# Altium integrated library Microchip PIC16 Part 1.IntLib: 1800 symbols (part 65 of 93)
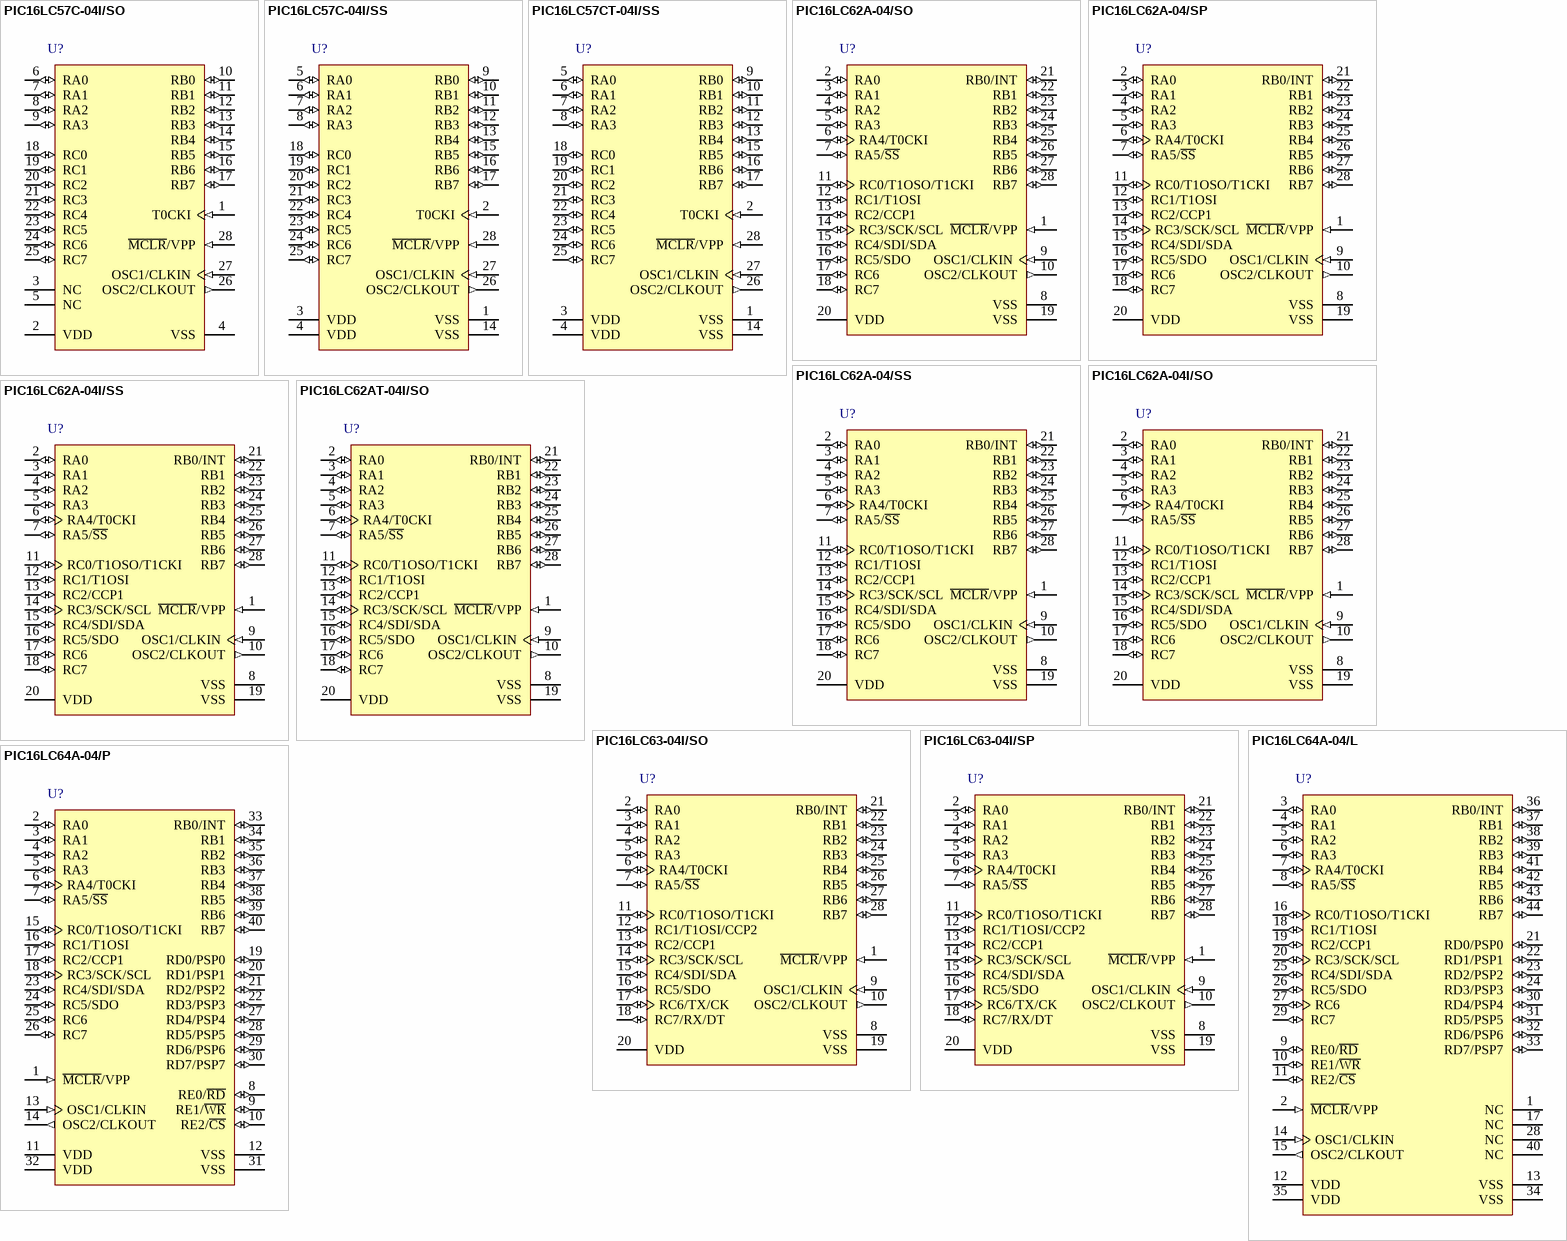
[diagram p163: symbols PIC16LC57C-04I/SO to PIC16LC64A-04/P]

## PIC16LC62A-04/SO
designator U?
8-Bit CMOS Microcontroller, 4 MHz, 22 I/O, 0 to 70 degC, 28-pin SOIC (SO28), Tube; Manufacturer: Microchip; PartNumber: PIC16LC62A-04/SO; I/O Pins: 22; Max. CPU Speed MHz: 4; Memory Type: OTP; Operation Voltage Range: 2.5V - 6V; Program Memory KBytes: 3.5; Program Memory KWords: 2; RAM: 128; Timers: 2 - 8-bit, 1 - 16-bit; DatasheetVersion: Rev. E; PackageVersion: C04-052C, 12/2012; PackageReference: SOIC-SO28; PackageDescription: 28-Lead Plastic Small Outline, 17.9 x 7.5 mm Body, 1.27 mm Pitch; Supplier 1: Digi-Key; Supplier Part Number 1: PIC16LC62A-04/SO-ND; Supplier 2: Mouser; Supplier Part Number 2: 579-PIC16LC62A-04/SO; Packing: TUBE; Mounting Technology: Surface Mount; ComponentLink1Description: Datasheet; ComponentLink1URL: http://ww1.microchip.com/downloads/en/DeviceDoc/30234E.pdf; ComponentLink2Description: Package Specification; ComponentLink2URL: http://www.microchip.com/stellent/groups/techpub_sg/documents/packagingspec/en012702.pdf; ComponentLink3Description: URL Link1; ComponentLink3URL: Product URL:http://www.microchip.com/datasheet/PIC16C62A
footprint MCHP-SOIC-SO28_N (SOIC, 28-Leads, Body 17.9x7.5mm, Pitch 1.27mm, IPC Medium Density)
footprint MCHP-SOIC-SO28_L (SOIC, 28-Leads, Body 17.9x7.5mm, Pitch 1.27mm, IPC High Density)
footprint MCHP-SOIC-SO28_M (SOIC, 28-Leads, Body 17.9x7.5mm, Pitch 1.27mm, IPC Low Density)
pins: 1 ~{MCLR}/VPP (in), 2 RA0 (io), 3 RA1 (io), 4 RA2 (io), 5 RA3 (io), 6 RA4/T0CKI (io), 7 RA5/~{SS} (io), 8 VSS (power) "Ground reference for logic and I/O pins.", 9 OSC1/CLKIN (in), 10 OSC2/CLKOUT (out), 11 RC0/T1OSO/T1CKI (io), 12 RC1/T1OSI (io), 13 RC2/CCP1 (io), 14 RC3/SCK/SCL (io), 15 RC4/SDI/SDA (io), 16 RC5/SDO (io), 17 RC6 (io) "PORTC is a bi-directional I/O port.", 18 RC7 (io) "PORTC is a bi-directional I/O port.", 19 VSS (power) "Ground reference for logic and I/O pins.", 20 VDD (power) "Positive supply for logic and I/O pins.", 21 RB0/INT (io), 22 RB1 (io) "PORTB is a bi-directional I/O port. PORTB can be software programmed for internal weak pull-up on all inputs.", 23 RB2 (io) "PORTB is a bi-directional I/O port. PORTB can be software programmed for internal weak pull-up on all inputs.", 24 RB3 (io) "PORTB is a bi-directional I/O port. PORTB can be software programmed for internal weak pull-up on all inputs.", 25 RB4 (io) "PORTB is a bi-directional I/O port. PORTB can be software programmed for internal weak pull-up on all inputs.Interrupt on change pin.", 26 RB5 (io) "PORTB is a bi-directional I/O port. PORTB can be software programmed for internal weak pull-up on all inputs.Interrupt on change pin.", 27 RB6 (io) "PORTB is a bi-directional I/O port. PORTB can be software programmed for internal weak pull-up on all inputs.Interrupt on change pin. Serial programming clock.", 28 RB7 (io) "PORTB is a bi-directional I/O port. PORTB can be software programmed for internal weak pull-up on all inputs.Interrupt on change pin. Serial programming data."

## PIC16LC62A-04/SP
designator U?
8-Bit CMOS Microcontroller, 4 MHz, 22 I/O, 0 to 70 degC, 28-pin SPDIP (SP28), Tube; Manufacturer: Microchip; PartNumber: PIC16LC62A-04/SP; I/O Pins: 22; Max. CPU Speed MHz: 4; Memory Type: OTP; Operation Voltage Range: 2.5V - 6V; Program Memory KBytes: 3.5; Program Memory KWords: 2; RAM: 128; Timers: 2 - 8-bit, 1 - 16-bit; DatasheetVersion: Rev. E; PackageVersion: C04-070B, 12/2012; PackageReference: SPDIP-SP28; PackageDescription: 28-Lead Plastic Dual In-Line, 34.86 x 6.79 mm Body, 2.54 mm Pitch; Supplier 1: Digi-Key; Supplier Part Number 1: PIC16LC62A-04/SP-ND; Supplier 2: Mouser; Supplier Part Number 2: 579-PIC16LC62A-04/SP; Packing: TUBE; Mounting Technology: Through Hole; ComponentLink1Description: Datasheet; ComponentLink1URL: http://ww1.microchip.com/downloads/en/DeviceDoc/30234E.pdf; ComponentLink2Description: Package Specification; ComponentLink2URL: http://www.microchip.com/stellent/groups/techpub_sg/documents/packagingspec/en012702.pdf; ComponentLink3Description: URL Link1; ComponentLink3URL: Product URL:http://www.microchip.com/datasheet/PIC16C62A
footprint MCHP-SPDIP-SP28 (DIP, 28-Leads, Body 34.86x6.79mm, Pitch 2.54mm)
pins: 1 ~{MCLR}/VPP (in), 2 RA0 (io), 3 RA1 (io), 4 RA2 (io), 5 RA3 (io), 6 RA4/T0CKI (io), 7 RA5/~{SS} (io), 8 VSS (power) "Ground reference for logic and I/O pins.", 9 OSC1/CLKIN (in), 10 OSC2/CLKOUT (out), 11 RC0/T1OSO/T1CKI (io), 12 RC1/T1OSI (io), 13 RC2/CCP1 (io), 14 RC3/SCK/SCL (io), 15 RC4/SDI/SDA (io), 16 RC5/SDO (io), 17 RC6 (io) "PORTC is a bi-directional I/O port.", 18 RC7 (io) "PORTC is a bi-directional I/O port.", 19 VSS (power) "Ground reference for logic and I/O pins.", 20 VDD (power) "Positive supply for logic and I/O pins.", 21 RB0/INT (io), 22 RB1 (io) "PORTB is a bi-directional I/O port. PORTB can be software programmed for internal weak pull-up on all inputs.", 23 RB2 (io) "PORTB is a bi-directional I/O port. PORTB can be software programmed for internal weak pull-up on all inputs.", 24 RB3 (io) "PORTB is a bi-directional I/O port. PORTB can be software programmed for internal weak pull-up on all inputs.", 25 RB4 (io) "PORTB is a bi-directional I/O port. PORTB can be software programmed for internal weak pull-up on all inputs.Interrupt on change pin.", 26 RB5 (io) "PORTB is a bi-directional I/O port. PORTB can be software programmed for internal weak pull-up on all inputs.Interrupt on change pin.", 27 RB6 (io) "PORTB is a bi-directional I/O port. PORTB can be software programmed for internal weak pull-up on all inputs.Interrupt on change pin. Serial programming clock.", 28 RB7 (io) "PORTB is a bi-directional I/O port. PORTB can be software programmed for internal weak pull-up on all inputs.Interrupt on change pin. Serial programming data."

## PIC16LC62A-04/SS
designator U?
8-Bit CMOS Microcontroller, 4 MHz, 22 I/O, 0 to 70 degC, 28-pin SSOP (SS28), Tube; Manufacturer: Microchip; PartNumber: PIC16LC62A-04/SS; I/O Pins: 22; Max. CPU Speed MHz: 4; Memory Type: OTP; Operation Voltage Range: 2.5V - 6V; Program Memory KBytes: 3.5; Program Memory KWords: 2; RAM: 128; Timers: 2 - 8-bit, 1 - 16-bit; DatasheetVersion: Rev. E; PackageVersion: C04-073B, 12/2012; PackageReference: SSOP-SS28; PackageDescription: 28-Lead Plastic Shrink Small Outline, 10.2 x 5.3 mm Body, 0.65 mm Pitch; Supplier 1: Digi-Key; Supplier Part Number 1: PIC16LC62A-04/SS-ND; Supplier 2: Mouser; Supplier Part Number 2: 579-PIC16LC62A-04/SS; Packing: TUBE; Mounting Technology: Surface Mount; ComponentLink1Description: Datasheet; ComponentLink1URL: http://ww1.microchip.com/downloads/en/DeviceDoc/30234E.pdf; ComponentLink2Description: Package Specification; ComponentLink2URL: http://www.microchip.com/stellent/groups/techpub_sg/documents/packagingspec/en012702.pdf; ComponentLink3Description: URL Link1; ComponentLink3URL: Product URL:http://www.microchip.com/datasheet/PIC16C62A
footprint MCHP-SSOP-SS28_N (SOP, 28-Leads, Body 10.2x5.3mm, Pitch 0.65mm, IPC Medium Density)
footprint MCHP-SSOP-SS28_L (SOP, 28-Leads, Body 10.2x5.3mm, Pitch 0.65mm, IPC High Density)
footprint MCHP-SSOP-SS28_M (SOP, 28-Leads, Body 10.2x5.3mm, Pitch 0.65mm, IPC Low Density)
pins: 1 ~{MCLR}/VPP (in), 2 RA0 (io), 3 RA1 (io), 4 RA2 (io), 5 RA3 (io), 6 RA4/T0CKI (io), 7 RA5/~{SS} (io), 8 VSS (power) "Ground reference for logic and I/O pins.", 9 OSC1/CLKIN (in), 10 OSC2/CLKOUT (out), 11 RC0/T1OSO/T1CKI (io), 12 RC1/T1OSI (io), 13 RC2/CCP1 (io), 14 RC3/SCK/SCL (io), 15 RC4/SDI/SDA (io), 16 RC5/SDO (io), 17 RC6 (io) "PORTC is a bi-directional I/O port.", 18 RC7 (io) "PORTC is a bi-directional I/O port.", 19 VSS (power) "Ground reference for logic and I/O pins.", 20 VDD (power) "Positive supply for logic and I/O pins.", 21 RB0/INT (io), 22 RB1 (io) "PORTB is a bi-directional I/O port. PORTB can be software programmed for internal weak pull-up on all inputs.", 23 RB2 (io) "PORTB is a bi-directional I/O port. PORTB can be software programmed for internal weak pull-up on all inputs.", 24 RB3 (io) "PORTB is a bi-directional I/O port. PORTB can be software programmed for internal weak pull-up on all inputs.", 25 RB4 (io) "PORTB is a bi-directional I/O port. PORTB can be software programmed for internal weak pull-up on all inputs.Interrupt on change pin.", 26 RB5 (io) "PORTB is a bi-directional I/O port. PORTB can be software programmed for internal weak pull-up on all inputs.Interrupt on change pin.", 27 RB6 (io) "PORTB is a bi-directional I/O port. PORTB can be software programmed for internal weak pull-up on all inputs.Interrupt on change pin. Serial programming clock.", 28 RB7 (io) "PORTB is a bi-directional I/O port. PORTB can be software programmed for internal weak pull-up on all inputs.Interrupt on change pin. Serial programming data."

## PIC16LC62A-04I/SO
designator U?
8-Bit CMOS Microcontroller, 4 MHz, 22 I/O, -40 to 85 degC, 28-pin SOIC (SO28), Tube; Manufacturer: Microchip; PartNumber: PIC16LC62A-04I/SO; I/O Pins: 22; Max. CPU Speed MHz: 4; Memory Type: OTP; Operation Voltage Range: 2.5V - 6V; Program Memory KBytes: 3.5; Program Memory KWords: 2; RAM: 128; Timers: 2 - 8-bit, 1 - 16-bit; DatasheetVersion: Rev. E; PackageVersion: C04-052C, 12/2012; PackageReference: SOIC-SO28; PackageDescription: 28-Lead Plastic Small Outline, 17.9 x 7.5 mm Body, 1.27 mm Pitch; Supplier 1: Digi-Key; Supplier Part Number 1: PIC16LC62A-04I/SO-ND; Supplier 2: Mouser; Supplier Part Number 2: 579-16LC62A-04I/SO; Packing: TUBE; Mounting Technology: Surface Mount; ComponentLink1Description: Datasheet; ComponentLink1URL: http://ww1.microchip.com/downloads/en/DeviceDoc/30234E.pdf; ComponentLink2Description: Package Specification; ComponentLink2URL: http://www.microchip.com/stellent/groups/techpub_sg/documents/packagingspec/en012702.pdf; ComponentLink3Description: URL Link1; ComponentLink3URL: Product URL:http://www.microchip.com/datasheet/PIC16C62A
footprint MCHP-SOIC-SO28_N (SOIC, 28-Leads, Body 17.9x7.5mm, Pitch 1.27mm, IPC Medium Density)
footprint MCHP-SOIC-SO28_L (SOIC, 28-Leads, Body 17.9x7.5mm, Pitch 1.27mm, IPC High Density)
footprint MCHP-SOIC-SO28_M (SOIC, 28-Leads, Body 17.9x7.5mm, Pitch 1.27mm, IPC Low Density)
pins: 1 ~{MCLR}/VPP (in), 2 RA0 (io), 3 RA1 (io), 4 RA2 (io), 5 RA3 (io), 6 RA4/T0CKI (io), 7 RA5/~{SS} (io), 8 VSS (power) "Ground reference for logic and I/O pins.", 9 OSC1/CLKIN (in), 10 OSC2/CLKOUT (out), 11 RC0/T1OSO/T1CKI (io), 12 RC1/T1OSI (io), 13 RC2/CCP1 (io), 14 RC3/SCK/SCL (io), 15 RC4/SDI/SDA (io), 16 RC5/SDO (io), 17 RC6 (io) "PORTC is a bi-directional I/O port.", 18 RC7 (io) "PORTC is a bi-directional I/O port.", 19 VSS (power) "Ground reference for logic and I/O pins.", 20 VDD (power) "Positive supply for logic and I/O pins.", 21 RB0/INT (io), 22 RB1 (io) "PORTB is a bi-directional I/O port. PORTB can be software programmed for internal weak pull-up on all inputs.", 23 RB2 (io) "PORTB is a bi-directional I/O port. PORTB can be software programmed for internal weak pull-up on all inputs.", 24 RB3 (io) "PORTB is a bi-directional I/O port. PORTB can be software programmed for internal weak pull-up on all inputs.", 25 RB4 (io) "PORTB is a bi-directional I/O port. PORTB can be software programmed for internal weak pull-up on all inputs.Interrupt on change pin.", 26 RB5 (io) "PORTB is a bi-directional I/O port. PORTB can be software programmed for internal weak pull-up on all inputs.Interrupt on change pin.", 27 RB6 (io) "PORTB is a bi-directional I/O port. PORTB can be software programmed for internal weak pull-up on all inputs.Interrupt on change pin. Serial programming clock.", 28 RB7 (io) "PORTB is a bi-directional I/O port. PORTB can be software programmed for internal weak pull-up on all inputs.Interrupt on change pin. Serial programming data."

## PIC16LC62A-04I/SS
designator U?
8-Bit CMOS Microcontroller, 4 MHz, 22 I/O, -40 to 85 degC, 28-pin SSOP (SS28), Tube; Manufacturer: Microchip; PartNumber: PIC16LC62A-04I/SS; I/O Pins: 22; Max. CPU Speed MHz: 4; Memory Type: OTP; Operation Voltage Range: 2.5V - 6V; Program Memory KBytes: 3.5; Program Memory KWords: 2; RAM: 128; Timers: 2 - 8-bit, 1 - 16-bit; DatasheetVersion: Rev. E; PackageVersion: C04-073B, 12/2012; PackageReference: SSOP-SS28; PackageDescription: 28-Lead Plastic Shrink Small Outline, 10.2 x 5.3 mm Body, 0.65 mm Pitch; Supplier 1: Digi-Key; Supplier Part Number 1: PIC16LC62A-04I/SS-ND; Supplier 2: Mouser; Supplier Part Number 2: 579-16LC62A-04I/SS; Packing: TUBE; Mounting Technology: Surface Mount; ComponentLink1Description: Datasheet; ComponentLink1URL: http://ww1.microchip.com/downloads/en/DeviceDoc/30234E.pdf; ComponentLink2Description: Package Specification; ComponentLink2URL: http://www.microchip.com/stellent/groups/techpub_sg/documents/packagingspec/en012702.pdf; ComponentLink3Description: URL Link1; ComponentLink3URL: Product URL:http://www.microchip.com/datasheet/PIC16C62A
footprint MCHP-SSOP-SS28_N (SOP, 28-Leads, Body 10.2x5.3mm, Pitch 0.65mm, IPC Medium Density)
footprint MCHP-SSOP-SS28_L (SOP, 28-Leads, Body 10.2x5.3mm, Pitch 0.65mm, IPC High Density)
footprint MCHP-SSOP-SS28_M (SOP, 28-Leads, Body 10.2x5.3mm, Pitch 0.65mm, IPC Low Density)
pins: 1 ~{MCLR}/VPP (in), 2 RA0 (io), 3 RA1 (io), 4 RA2 (io), 5 RA3 (io), 6 RA4/T0CKI (io), 7 RA5/~{SS} (io), 8 VSS (power) "Ground reference for logic and I/O pins.", 9 OSC1/CLKIN (in), 10 OSC2/CLKOUT (out), 11 RC0/T1OSO/T1CKI (io), 12 RC1/T1OSI (io), 13 RC2/CCP1 (io), 14 RC3/SCK/SCL (io), 15 RC4/SDI/SDA (io), 16 RC5/SDO (io), 17 RC6 (io) "PORTC is a bi-directional I/O port.", 18 RC7 (io) "PORTC is a bi-directional I/O port.", 19 VSS (power) "Ground reference for logic and I/O pins.", 20 VDD (power) "Positive supply for logic and I/O pins.", 21 RB0/INT (io), 22 RB1 (io) "PORTB is a bi-directional I/O port. PORTB can be software programmed for internal weak pull-up on all inputs.", 23 RB2 (io) "PORTB is a bi-directional I/O port. PORTB can be software programmed for internal weak pull-up on all inputs.", 24 RB3 (io) "PORTB is a bi-directional I/O port. PORTB can be software programmed for internal weak pull-up on all inputs.", 25 RB4 (io) "PORTB is a bi-directional I/O port. PORTB can be software programmed for internal weak pull-up on all inputs.Interrupt on change pin.", 26 RB5 (io) "PORTB is a bi-directional I/O port. PORTB can be software programmed for internal weak pull-up on all inputs.Interrupt on change pin.", 27 RB6 (io) "PORTB is a bi-directional I/O port. PORTB can be software programmed for internal weak pull-up on all inputs.Interrupt on change pin. Serial programming clock.", 28 RB7 (io) "PORTB is a bi-directional I/O port. PORTB can be software programmed for internal weak pull-up on all inputs.Interrupt on change pin. Serial programming data."

## PIC16LC62AT-04I/SO
designator U?
8-Bit CMOS Microcontroller, 4 MHz, 22 I/O, -40 to 85 degC, 28-pin SOIC (SO28), Tape and Reel; Manufacturer: Microchip; PartNumber: PIC16LC62AT-04I/SO; I/O Pins: 22; Max. CPU Speed MHz: 4; Memory Type: OTP; Operation Voltage Range: 2.5V - 6V; Packing: T/R; Program Memory KBytes: 3.5; Program Memory KWords: 2; RAM: 128; Timers: 2 - 8-bit, 1 - 16-bit; DatasheetVersion: Rev. E; PackageVersion: C04-052C, 12/2012; PackageReference: SOIC-SO28; PackageDescription: 28-Lead Plastic Small Outline, 17.9 x 7.5 mm Body, 1.27 mm Pitch; Supplier 1: Digi-Key; Supplier Part Number 1: PIC16LC62AT-04ISO-ND; Supplier 2: Mouser; Supplier Part Number 2: 579-16LC62AT-04I/SO; Mounting Technology: Surface Mount; ComponentLink1Description: Datasheet; ComponentLink1URL: http://ww1.microchip.com/downloads/en/DeviceDoc/30234E.pdf; ComponentLink2Description: Package Specification; ComponentLink2URL: http://www.microchip.com/stellent/groups/techpub_sg/documents/packagingspec/en012702.pdf; ComponentLink3Description: URL Link1; ComponentLink3URL: Product URL:http://www.microchip.com/datasheet/PIC16C62A
footprint MCHP-SOIC-SO28_N (SOIC, 28-Leads, Body 17.9x7.5mm, Pitch 1.27mm, IPC Medium Density)
footprint MCHP-SOIC-SO28_L (SOIC, 28-Leads, Body 17.9x7.5mm, Pitch 1.27mm, IPC High Density)
footprint MCHP-SOIC-SO28_M (SOIC, 28-Leads, Body 17.9x7.5mm, Pitch 1.27mm, IPC Low Density)
pins: 1 ~{MCLR}/VPP (in), 2 RA0 (io), 3 RA1 (io), 4 RA2 (io), 5 RA3 (io), 6 RA4/T0CKI (io), 7 RA5/~{SS} (io), 8 VSS (power) "Ground reference for logic and I/O pins.", 9 OSC1/CLKIN (in), 10 OSC2/CLKOUT (out), 11 RC0/T1OSO/T1CKI (io), 12 RC1/T1OSI (io), 13 RC2/CCP1 (io), 14 RC3/SCK/SCL (io), 15 RC4/SDI/SDA (io), 16 RC5/SDO (io), 17 RC6 (io) "PORTC is a bi-directional I/O port.", 18 RC7 (io) "PORTC is a bi-directional I/O port.", 19 VSS (power) "Ground reference for logic and I/O pins.", 20 VDD (power) "Positive supply for logic and I/O pins.", 21 RB0/INT (io), 22 RB1 (io) "PORTB is a bi-directional I/O port. PORTB can be software programmed for internal weak pull-up on all inputs.", 23 RB2 (io) "PORTB is a bi-directional I/O port. PORTB can be software programmed for internal weak pull-up on all inputs.", 24 RB3 (io) "PORTB is a bi-directional I/O port. PORTB can be software programmed for internal weak pull-up on all inputs.", 25 RB4 (io) "PORTB is a bi-directional I/O port. PORTB can be software programmed for internal weak pull-up on all inputs.Interrupt on change pin.", 26 RB5 (io) "PORTB is a bi-directional I/O port. PORTB can be software programmed for internal weak pull-up on all inputs.Interrupt on change pin.", 27 RB6 (io) "PORTB is a bi-directional I/O port. PORTB can be software programmed for internal weak pull-up on all inputs.Interrupt on change pin. Serial programming clock.", 28 RB7 (io) "PORTB is a bi-directional I/O port. PORTB can be software programmed for internal weak pull-up on all inputs.Interrupt on change pin. Serial programming data."

## PIC16LC63-04I/SO
designator U?
8-Bit CMOS Microcontroller, 4 MHz, 22 I/O, -40 to 85 degC, 28-pin SOIC (SO28), Tube; Manufacturer: Microchip; PartNumber: PIC16LC63-04I/SO; Digital Communication: 0 -UART, 1 -A/E/USART, 0 -SPI, 0 -I2C, 0 -MSSP(SPI/I2C), 1 -SSP(SPI/I2C); I/O Pins: 22; Max. CPU Speed MHz: 4; Memory Type: OTP; Operation Voltage Range: 2.5V - 6V; Program Memory KBytes: 7; RAM: 192; Timers: 2 - 8-bit, 1 - 16-bit; DatasheetVersion: Rev. E; PackageVersion: C04-052C, 12/2012; PackageReference: SOIC-SO28; PackageDescription: 28-Lead Plastic Small Outline, 17.9 x 7.5 mm Body, 1.27 mm Pitch; Supplier 1: Digi-Key; Supplier Part Number 1: PIC16LC63-04I/SO-ND; Supplier 2: Newark; Supplier Part Number 2: 23C5371; Supplier 3: Mouser; Supplier Part Number 3: 579-PIC16LC63-04I/SO; Packing: TUBE; Program Memory KWords: 4; Mounting Technology: Surface Mount; ComponentLink1Description: Datasheet; ComponentLink1URL: http://ww1.microchip.com/downloads/en/DeviceDoc/30234E.pdf; ComponentLink2Description: Package Specification; ComponentLink2URL: http://www.microchip.com/stellent/groups/techpub_sg/documents/packagingspec/en012702.pdf; ComponentLink3Description: URL Link1; ComponentLink3URL: Product URL:http://www.microchip.com/datasheet/PIC16C63
footprint MCHP-SOIC-SO28_N (SOIC, 28-Leads, Body 17.9x7.5mm, Pitch 1.27mm, IPC Medium Density)
footprint MCHP-SOIC-SO28_L (SOIC, 28-Leads, Body 17.9x7.5mm, Pitch 1.27mm, IPC High Density)
footprint MCHP-SOIC-SO28_M (SOIC, 28-Leads, Body 17.9x7.5mm, Pitch 1.27mm, IPC Low Density)
pins: 1 ~{MCLR}/VPP (in), 2 RA0 (io) "PORTA is a bi-directional I/O port.", 3 RA1 (io) "PORTA is a bi-directional I/O port.", 4 RA2 (io) "PORTA is a bi-directional I/O port.", 5 RA3 (io) "PORTA is a bi-directional I/O port.", 6 RA4/T0CKI (io), 7 RA5/~{SS} (io), 8 VSS (power) "Ground reference for logic and I/O pins.", 9 OSC1/CLKIN (in), 10 OSC2/CLKOUT (out), 11 RC0/T1OSO/T1CKI (io), 12 RC1/T1OSI/CCP2 (io), 13 RC2/CCP1 (io), 14 RC3/SCK/SCL (io), 15 RC4/SDI/SDA (io), 16 RC5/SDO (io), 17 RC6/TX/CK (io), 18 RC7/RX/DT (io), 19 VSS (power) "Ground reference for logic and I/O pins.", 20 VDD (power) "Positive supply for logic and I/O pins.", 21 RB0/INT (io), 22 RB1 (io) "PORTB is a bi-directional I/O port. PORTB can be software programmed for internal weak pull-up on all inputs.", 23 RB2 (io) "PORTB is a bi-directional I/O port. PORTB can be software programmed for internal weak pull-up on all inputs.", 24 RB3 (io) "PORTB is a bi-directional I/O port. PORTB can be software programmed for internal weak pull-up on all inputs.", 25 RB4 (io) "PORTB is a bi-directional I/O port. PORTB can be software programmed for internal weak pull-up on all inputs. Interrupt on change pin.", 26 RB5 (io) "PORTB is a bi-directional I/O port. PORTB can be software programmed for internal weak pull-up on all inputs. Interrupt on change pin.", 27 RB6 (io) "PORTB is a bi-directional I/O port. PORTB can be software programmed for internal weak pull-up on all inputs. Interrupt on change pin. Serial programming clock.", 28 RB7 (io) "PORTB is a bi-directional I/O port. PORTB can be software programmed for internal weak pull-up on all inputs. Interrupt on change pin. Serial programming data."

## PIC16LC63-04I/SP
designator U?
8-Bit CMOS Microcontroller, 4 MHz, 22 I/O, -40 to 85 degC, 28-pin SPDIP (SP28), Tube; Manufacturer: Microchip; PartNumber: PIC16LC63-04I/SP; Digital Communication: 0 -UART, 1 -A/E/USART, 0 -SPI, 0 -I2C, 0 -MSSP(SPI/I2C), 1 -SSP(SPI/I2C); I/O Pins: 22; Max. CPU Speed MHz: 4; Memory Type: OTP; Operation Voltage Range: 2.5V - 6V; Program Memory KBytes: 7; RAM: 192; Timers: 2 - 8-bit, 1 - 16-bit; DatasheetVersion: Rev. E; PackageVersion: C04-070B, 12/2012; PackageReference: SPDIP-SP28; PackageDescription: 28-Lead Plastic Dual In-Line, 34.86 x 6.79 mm Body, 2.54 mm Pitch; Supplier 1: Digi-Key; Supplier Part Number 1: PIC16LC63-04I/SP-ND; Supplier 2: Mouser; Supplier Part Number 2: 579-PIC16LC63-04I/SP; Packing: TUBE; Program Memory KWords: 4; Mounting Technology: Through Hole; ComponentLink1Description: Datasheet; ComponentLink1URL: http://ww1.microchip.com/downloads/en/DeviceDoc/30234E.pdf; ComponentLink2Description: Package Specification; ComponentLink2URL: http://www.microchip.com/stellent/groups/techpub_sg/documents/packagingspec/en012702.pdf; ComponentLink3Description: URL Link1; ComponentLink3URL: Product URL:http://www.microchip.com/datasheet/PIC16C63
footprint MCHP-SPDIP-SP28 (DIP, 28-Leads, Body 34.86x6.79mm, Pitch 2.54mm)
pins: 1 ~{MCLR}/VPP (in), 2 RA0 (io) "PORTA is a bi-directional I/O port.", 3 RA1 (io) "PORTA is a bi-directional I/O port.", 4 RA2 (io) "PORTA is a bi-directional I/O port.", 5 RA3 (io) "PORTA is a bi-directional I/O port.", 6 RA4/T0CKI (io), 7 RA5/~{SS} (io), 8 VSS (power) "Ground reference for logic and I/O pins.", 9 OSC1/CLKIN (in), 10 OSC2/CLKOUT (out), 11 RC0/T1OSO/T1CKI (io), 12 RC1/T1OSI/CCP2 (io), 13 RC2/CCP1 (io), 14 RC3/SCK/SCL (io), 15 RC4/SDI/SDA (io), 16 RC5/SDO (io), 17 RC6/TX/CK (io), 18 RC7/RX/DT (io), 19 VSS (power) "Ground reference for logic and I/O pins.", 20 VDD (power) "Positive supply for logic and I/O pins.", 21 RB0/INT (io), 22 RB1 (io) "PORTB is a bi-directional I/O port. PORTB can be software programmed for internal weak pull-up on all inputs.", 23 RB2 (io) "PORTB is a bi-directional I/O port. PORTB can be software programmed for internal weak pull-up on all inputs.", 24 RB3 (io) "PORTB is a bi-directional I/O port. PORTB can be software programmed for internal weak pull-up on all inputs.", 25 RB4 (io) "PORTB is a bi-directional I/O port. PORTB can be software programmed for internal weak pull-up on all inputs. Interrupt on change pin.", 26 RB5 (io) "PORTB is a bi-directional I/O port. PORTB can be software programmed for internal weak pull-up on all inputs. Interrupt on change pin.", 27 RB6 (io) "PORTB is a bi-directional I/O port. PORTB can be software programmed for internal weak pull-up on all inputs. Interrupt on change pin. Serial programming clock.", 28 RB7 (io) "PORTB is a bi-directional I/O port. PORTB can be software programmed for internal weak pull-up on all inputs. Interrupt on change pin. Serial programming data."

## PIC16LC64A-04/L
designator U?
8-Bit CMOS Microcontroller, 4 MHz, 33 I/O, 0 to 70 degC, 44-pin PLCC (L44), Tube; Manufacturer: Microchip; PartNumber: PIC16LC64A-04/L; Digital Communication: 1-SPI, 1-I2C; I/O Pins: 33; Max. CPU Speed MHz: 4; Memory Type: OTP; Operation Voltage Range: 2.5V - 6V; Program Memory KBytes: 3.5; Program Memory KWords: 2; RAM: 128; Timers: 2 - 8-bit, 1 - 16-bit; DatasheetVersion: Rev. E; PackageVersion: C04-048B, 04/2013; PackageReference: PLCC-L44; PackageDescription: 44-Lead Plastic Leaded Chip Carrier, Body 16.5862 x 16.5862 mm, Pitch 1.27 mm; Supplier 1: Digi-Key; Supplier Part Number 1: PIC16LC64A-04/L-ND; Supplier 2: Mouser; Supplier Part Number 2: 579-PIC16LC64A04L; Packing: TUBE; Mounting Technology: Surface Mount; ComponentLink1Description: Datasheet; ComponentLink1URL: http://ww1.microchip.com/downloads/en/DeviceDoc/30234E.pdf; ComponentLink2Description: Package Specification; ComponentLink2URL: http://www.microchip.com/stellent/groups/techpub_sg/documents/packagingspec/en012702.pdf; ComponentLink3Description: URL Link1; ComponentLink3URL: Product URL:http://www.microchip.com/datasheet/PIC16C64A
footprint MCHP-PLCC-L44_N (PLCC, 44-Leads, Body 16.586x16.586mm, Pitch 1.27mm, IPC Medium Density)
footprint MCHP-PLCC-L44_L (PLCC, 44-Leads, Body 16.586x16.586mm, Pitch 1.27mm, IPC High Density)
footprint MCHP-PLCC-L44_M (PLCC, 44-Leads, Body 16.586x16.586mm, Pitch 1.27mm, IPC Low Density)
pins: 1 NC "These pins are not internally connected. These pins should be left unconnected.", 2 ~{MCLR}/VPP (in), 3 RA0 (io) "PORTA is a bi-directional I/O port.", 4 RA1 (io) "PORTA is a bi-directional I/O port.", 5 RA2 (io) "PORTA is a bi-directional I/O port.", 6 RA3 (io) "PORTA is a bi-directional I/O port.", 7 RA4/T0CKI (io), 8 RA5/~{SS} (io), 9 RE0/~{RD} (io), 10 RE1/~{WR} (io), 11 RE2/~{CS} (io), 12 VDD (power) "Positive supply for logic and I/O pins.", 13 VSS (power) "Ground reference for logic and I/O pins.", 14 OSC1/CLKIN (in), 15 OSC2/CLKOUT (out), 16 RC0/T1OSO/T1CKI (io), 17 NC "These pins are not internally connected. These pins should be left unconnected.", 18 RC1/T1OSI (io), 19 RC2/CCP1 (io), 20 RC3/SCK/SCL (io), 21 RD0/PSP0 (io), 22 RD1/PSP1 (io), 23 RD2/PSP2 (io), 24 RD3/PSP3 (io), 25 RC4/SDI/SDA (io), 26 RC5/SDO (io), 27 RC6 (io) "PORTC is a bi-directional I/O port.", 28 NC "These pins are not internally connected. These pins should be left unconnected.", 29 RC7 (io) "PORTC is a bi-directional I/O port.", 30 RD4/PSP4 (io), 31 RD5/PSP5 (io), 32 RD6/PSP6 (io), 33 RD7/PSP7 (io), 34 VSS (power) "Ground reference for logic and I/O pins.", 35 VDD (power) "Positive supply for logic and I/O pins.", 36 RB0/INT (io), 37 RB1 (io) "PORTB is a bi-directional I/O port. PORTB can be software programmed for internal weak pull-up on all inputs.", 38 RB2 (io) "PORTB is a bi-directional I/O port. PORTB can be software programmed for internal weak pull-up on all inputs.", 39 RB3 (io) "PORTB is a bi-directional I/O port. PORTB can be software programmed for internal weak pull-up on all inputs.", 40 NC "These pins are not internally connected. These pins should be left unconnected.", 41 RB4 (io) "PORTB is a bi-directional I/O port. PORTB can be software programmed for internal weak pull-up on all inputs. Interrupt on change pin.", 42 RB5 (io) "PORTB is a bi-directional I/O port. PORTB can be software programmed for internal weak pull-up on all inputs. Interrupt on change pin.", 43 RB6 (io) "PORTB is a bi-directional I/O port. PORTB can be software programmed for internal weak pull-up on all inputs. Interrupt on change pin. Serial programming clock.", 44 RB7 (io) "PORTB is a bi-directional I/O port. PORTB can be software programmed for internal weak pull-up on all inputs. Interrupt on change pin. Serial programming data."

## PIC16LC64A-04/P
designator U?
8-Bit CMOS Microcontroller, 4 MHz, 33 I/O, 0 to 70 degC, 40-pin PDIP (P40), Tube; Manufacturer: Microchip; PartNumber: PIC16LC64A-04/P; Digital Communication: 1-SPI, 1-I2C; I/O Pins: 33; Max. CPU Speed MHz: 4; Memory Type: OTP; Operation Voltage Range: 2.5V - 6V; Program Memory KBytes: 3.5; Program Memory KWords: 2; RAM: 128; Timers: 2 - 8-bit, 1 - 16-bit; DatasheetVersion: Rev. E; PackageVersion: C04-016B, 04/2013; PackageReference: PDIP-P40; PackageDescription: 40-Lead Plastic Dual In-Line Package, Body 51.75 x 13.53 mm, Pitch 2.54 mm; Supplier 1: Digi-Key; Supplier Part Number 1: PIC16LC64A-04/P-ND; Supplier 2: Mouser; Supplier Part Number 2: 579-PIC16LC64A04P; Packing: TUBE; Mounting Technology: Through Hole; ComponentLink1Description: Datasheet; ComponentLink1URL: http://ww1.microchip.com/downloads/en/DeviceDoc/30234E.pdf; ComponentLink2Description: Package Specification; ComponentLink2URL: http://www.microchip.com/stellent/groups/techpub_sg/documents/packagingspec/en012702.pdf; ComponentLink3Description: URL Link1; ComponentLink3URL: Product URL:http://www.microchip.com/datasheet/PIC16C64A
footprint MCHP-PDIP-P40 (PDIP, 40-Leads, Body 51.75x13.53mm, Pitch 2.54mm)
pins: 1 ~{MCLR}/VPP (in), 2 RA0 (io) "PORTA is a bi-directional I/O port.", 3 RA1 (io) "PORTA is a bi-directional I/O port.", 4 RA2 (io) "PORTA is a bi-directional I/O port.", 5 RA3 (io) "PORTA is a bi-directional I/O port.", 6 RA4/T0CKI (io), 7 RA5/~{SS} (io), 8 RE0/~{RD} (io), 9 RE1/~{WR} (io), 10 RE2/~{CS} (io), 11 VDD (power) "Positive supply for logic and I/O pins.", 12 VSS (power) "Ground reference for logic and I/O pins.", 13 OSC1/CLKIN (in), 14 OSC2/CLKOUT (out), 15 RC0/T1OSO/T1CKI (io), 16 RC1/T1OSI (io), 17 RC2/CCP1 (io), 18 RC3/SCK/SCL (io), 19 RD0/PSP0 (io), 20 RD1/PSP1 (io), 21 RD2/PSP2 (io), 22 RD3/PSP3 (io), 23 RC4/SDI/SDA (io), 24 RC5/SDO (io), 25 RC6 (io), 26 RC7 (io), 27 RD4/PSP4 (io), 28 RD5/PSP5 (io), 29 RD6/PSP6 (io), 30 RD7/PSP7 (io), 31 VSS (power) "Ground reference for logic and I/O pins.", 32 VDD (power) "Positive supply for logic and I/O pins.", 33 RB0/INT (io), 34 RB1 (io) "PORTB is a bi-directional I/O port. PORTB can be software programmed for internal weak pull-up on all inputs.", 35 RB2 (io) "PORTB is a bi-directional I/O port. PORTB can be software programmed for internal weak pull-up on all inputs.", 36 RB3 (io) "PORTB is a bi-directional I/O port. PORTB can be software programmed for internal weak pull-up on all inputs.", 37 RB4 (io) "PORTB is a bi-directional I/O port. PORTB can be software programmed for internal weak pull-up on all inputs. Interrupt on change pin.", 38 RB5 (io) "PORTB is a bi-directional I/O port. PORTB can be software programmed for internal weak pull-up on all inputs. Interrupt on change pin.", 39 RB6 (io) "PORTB is a bi-directional I/O port. PORTB can be software programmed for internal weak pull-up on all inputs. Interrupt on change pin. Serial programming clock.", 40 RB7 (io) "PORTB is a bi-directional I/O port. PORTB can be software programmed for internal weak pull-up on all inputs. Interrupt on change pin. Serial programming data."

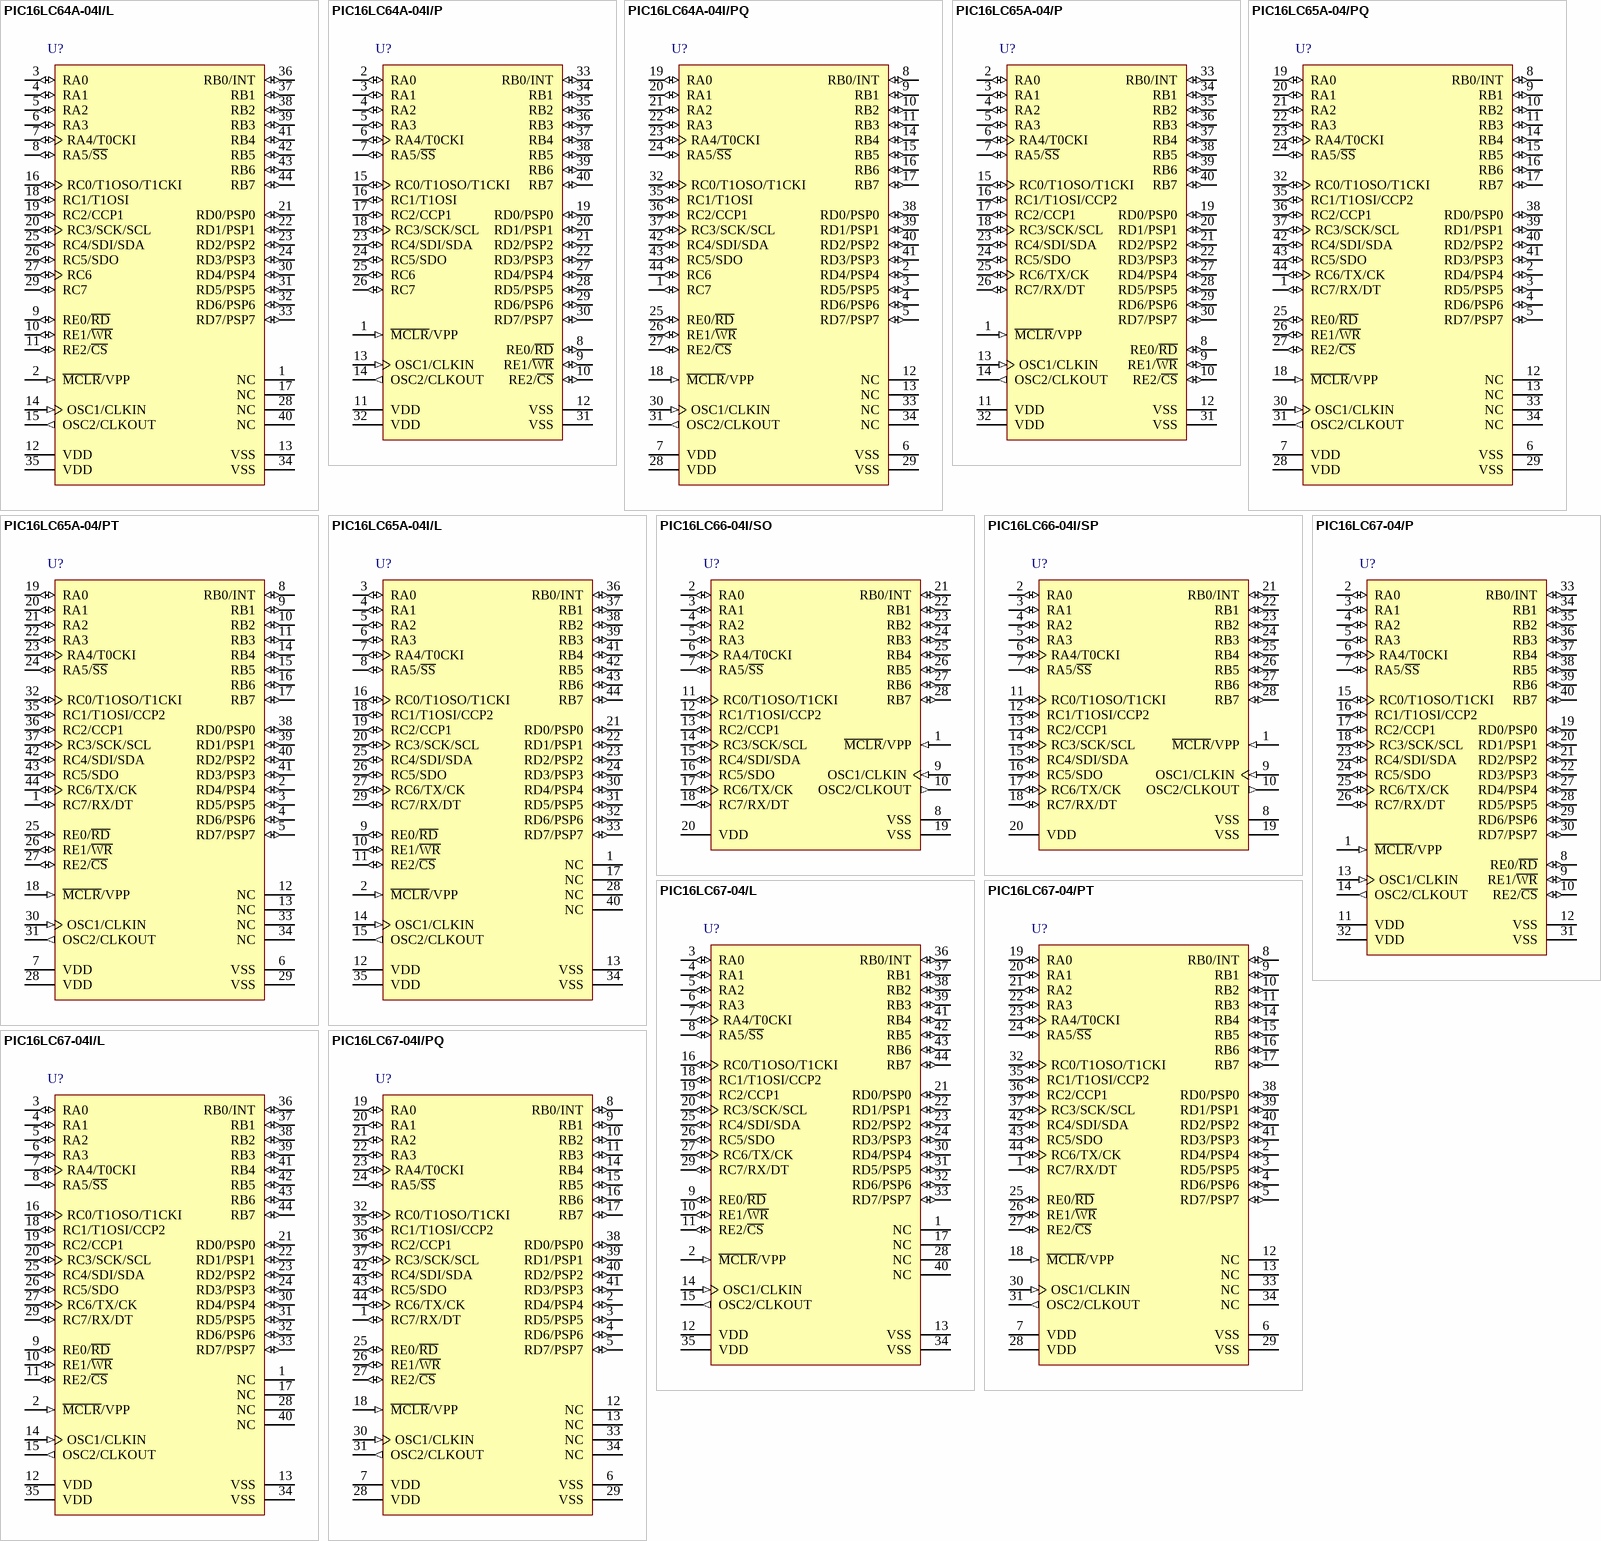
[diagram p67: symbols PIC16LC64A-04I/L to PIC16LC67-04I/PQ]

## PIC16LC64A-04I/L
designator U?
8-Bit CMOS Microcontroller, 4 MHz, 33 I/O, -40 to 85 degC, 44-pin PLCC (L44), Tube; Manufacturer: Microchip; PartNumber: PIC16LC64A-04I/L; Digital Communication: 1-SPI, 1-I2C; I/O Pins: 33; Max. CPU Speed MHz: 4; Memory Type: OTP; Operation Voltage Range: 2.5V - 6V; Program Memory KBytes: 3.5; Program Memory KWords: 2; RAM: 128; Timers: 2 - 8-bit, 1 - 16-bit; DatasheetVersion: Rev. E; PackageVersion: C04-048B, 04/2013; PackageReference: PLCC-L44; PackageDescription: 44-Lead Plastic Leaded Chip Carrier, Body 16.5862 x 16.5862 mm, Pitch 1.27 mm; Supplier 1: Digi-Key; Supplier Part Number 1: PIC16LC64A-04I/L-ND; Supplier 2: Mouser; Supplier Part Number 2: 579-PIC16LC64A-04I/L; Packing: TUBE; Mounting Technology: Surface Mount; ComponentLink1Description: Datasheet; ComponentLink1URL: http://ww1.microchip.com/downloads/en/DeviceDoc/30234E.pdf; ComponentLink2Description: Package Specification; ComponentLink2URL: http://www.microchip.com/stellent/groups/techpub_sg/documents/packagingspec/en012702.pdf; ComponentLink3Description: URL Link1; ComponentLink3URL: Product URL:http://www.microchip.com/datasheet/PIC16C64A
footprint MCHP-PLCC-L44_N (PLCC, 44-Leads, Body 16.586x16.586mm, Pitch 1.27mm, IPC Medium Density)
footprint MCHP-PLCC-L44_L (PLCC, 44-Leads, Body 16.586x16.586mm, Pitch 1.27mm, IPC High Density)
footprint MCHP-PLCC-L44_M (PLCC, 44-Leads, Body 16.586x16.586mm, Pitch 1.27mm, IPC Low Density)
pins: 1 NC "These pins are not internally connected. These pins should be left unconnected.", 2 ~{MCLR}/VPP (in), 3 RA0 (io) "PORTA is a bi-directional I/O port.", 4 RA1 (io) "PORTA is a bi-directional I/O port.", 5 RA2 (io) "PORTA is a bi-directional I/O port.", 6 RA3 (io) "PORTA is a bi-directional I/O port.", 7 RA4/T0CKI (io), 8 RA5/~{SS} (io), 9 RE0/~{RD} (io), 10 RE1/~{WR} (io), 11 RE2/~{CS} (io), 12 VDD (power) "Positive supply for logic and I/O pins.", 13 VSS (power) "Ground reference for logic and I/O pins.", 14 OSC1/CLKIN (in), 15 OSC2/CLKOUT (out), 16 RC0/T1OSO/T1CKI (io), 17 NC "These pins are not internally connected. These pins should be left unconnected.", 18 RC1/T1OSI (io), 19 RC2/CCP1 (io), 20 RC3/SCK/SCL (io), 21 RD0/PSP0 (io), 22 RD1/PSP1 (io), 23 RD2/PSP2 (io), 24 RD3/PSP3 (io), 25 RC4/SDI/SDA (io), 26 RC5/SDO (io), 27 RC6 (io) "PORTC is a bi-directional I/O port.", 28 NC "These pins are not internally connected. These pins should be left unconnected.", 29 RC7 (io) "PORTC is a bi-directional I/O port.", 30 RD4/PSP4 (io), 31 RD5/PSP5 (io), 32 RD6/PSP6 (io), 33 RD7/PSP7 (io), 34 VSS (power) "Ground reference for logic and I/O pins.", 35 VDD (power) "Positive supply for logic and I/O pins.", 36 RB0/INT (io), 37 RB1 (io) "PORTB is a bi-directional I/O port. PORTB can be software programmed for internal weak pull-up on all inputs.", 38 RB2 (io) "PORTB is a bi-directional I/O port. PORTB can be software programmed for internal weak pull-up on all inputs.", 39 RB3 (io) "PORTB is a bi-directional I/O port. PORTB can be software programmed for internal weak pull-up on all inputs.", 40 NC "These pins are not internally connected. These pins should be left unconnected.", 41 RB4 (io) "PORTB is a bi-directional I/O port. PORTB can be software programmed for internal weak pull-up on all inputs. Interrupt on change pin.", 42 RB5 (io) "PORTB is a bi-directional I/O port. PORTB can be software programmed for internal weak pull-up on all inputs. Interrupt on change pin.", 43 RB6 (io) "PORTB is a bi-directional I/O port. PORTB can be software programmed for internal weak pull-up on all inputs. Interrupt on change pin. Serial programming clock.", 44 RB7 (io) "PORTB is a bi-directional I/O port. PORTB can be software programmed for internal weak pull-up on all inputs. Interrupt on change pin. Serial programming data."

## PIC16LC64A-04I/P
designator U?
8-Bit CMOS Microcontroller, 4 MHz, 33 I/O, -40 to 85 degC, 40-pin PDIP (P40), Tube; Manufacturer: Microchip; PartNumber: PIC16LC64A-04I/P; Digital Communication: 1-SPI, 1-I2C; I/O Pins: 33; Max. CPU Speed MHz: 4; Memory Type: OTP; Operation Voltage Range: 2.5V - 6V; Program Memory KBytes: 3.5; Program Memory KWords: 2; RAM: 128; Timers: 2 - 8-bit, 1 - 16-bit; DatasheetVersion: Rev. E; PackageVersion: C04-016B, 04/2013; PackageReference: PDIP-P40; PackageDescription: 40-Lead Plastic Dual In-Line Package, Body 51.75 x 13.53 mm, Pitch 2.54 mm; Supplier 1: Digi-Key; Supplier Part Number 1: PIC16LC64A-04I/P-ND; Supplier 2: Mouser; Supplier Part Number 2: 579-PIC16LC64A-04I/P; Packing: TUBE; Mounting Technology: Through Hole; ComponentLink1Description: Datasheet; ComponentLink1URL: http://ww1.microchip.com/downloads/en/DeviceDoc/30234E.pdf; ComponentLink2Description: Package Specification; ComponentLink2URL: http://www.microchip.com/stellent/groups/techpub_sg/documents/packagingspec/en012702.pdf; ComponentLink3Description: URL Link1; ComponentLink3URL: Product URL:http://www.microchip.com/datasheet/PIC16C64A
footprint MCHP-PDIP-P40 (PDIP, 40-Leads, Body 51.75x13.53mm, Pitch 2.54mm)
pins: 1 ~{MCLR}/VPP (in), 2 RA0 (io) "PORTA is a bi-directional I/O port.", 3 RA1 (io) "PORTA is a bi-directional I/O port.", 4 RA2 (io) "PORTA is a bi-directional I/O port.", 5 RA3 (io) "PORTA is a bi-directional I/O port.", 6 RA4/T0CKI (io), 7 RA5/~{SS} (io), 8 RE0/~{RD} (io), 9 RE1/~{WR} (io), 10 RE2/~{CS} (io), 11 VDD (power) "Positive supply for logic and I/O pins.", 12 VSS (power) "Ground reference for logic and I/O pins.", 13 OSC1/CLKIN (in), 14 OSC2/CLKOUT (out), 15 RC0/T1OSO/T1CKI (io), 16 RC1/T1OSI (io), 17 RC2/CCP1 (io), 18 RC3/SCK/SCL (io), 19 RD0/PSP0 (io), 20 RD1/PSP1 (io), 21 RD2/PSP2 (io), 22 RD3/PSP3 (io), 23 RC4/SDI/SDA (io), 24 RC5/SDO (io), 25 RC6 (io), 26 RC7 (io), 27 RD4/PSP4 (io), 28 RD5/PSP5 (io), 29 RD6/PSP6 (io), 30 RD7/PSP7 (io), 31 VSS (power) "Ground reference for logic and I/O pins.", 32 VDD (power) "Positive supply for logic and I/O pins.", 33 RB0/INT (io), 34 RB1 (io) "PORTB is a bi-directional I/O port. PORTB can be software programmed for internal weak pull-up on all inputs.", 35 RB2 (io) "PORTB is a bi-directional I/O port. PORTB can be software programmed for internal weak pull-up on all inputs.", 36 RB3 (io) "PORTB is a bi-directional I/O port. PORTB can be software programmed for internal weak pull-up on all inputs.", 37 RB4 (io) "PORTB is a bi-directional I/O port. PORTB can be software programmed for internal weak pull-up on all inputs. Interrupt on change pin.", 38 RB5 (io) "PORTB is a bi-directional I/O port. PORTB can be software programmed for internal weak pull-up on all inputs. Interrupt on change pin.", 39 RB6 (io) "PORTB is a bi-directional I/O port. PORTB can be software programmed for internal weak pull-up on all inputs. Interrupt on change pin. Serial programming clock.", 40 RB7 (io) "PORTB is a bi-directional I/O port. PORTB can be software programmed for internal weak pull-up on all inputs. Interrupt on change pin. Serial programming data."

## PIC16LC64A-04I/PQ
designator U?
8-Bit CMOS Microcontroller, 4 MHz, 33 I/O, -40 to 85 degC, 44-pin MQFP (PQ44), Tray; Manufacturer: Microchip; PartNumber: PIC16LC64A-04I/PQ; Digital Communication: 1-SPI, 1-I2C; I/O Pins: 33; Max. CPU Speed MHz: 4; Memory Type: OTP; Operation Voltage Range: 2.5V - 6V; Program Memory KBytes: 3.5; Program Memory KWords: 2; RAM: 128; Timers: 2 - 8-bit, 1 - 16-bit; DatasheetVersion: Rev. E; PackageVersion: C04-071B, 04/2013; PackageReference: MQFP-PQ44; PackageDescription: 44-Lead Plastic Metric Quad Flatpack Package, Body 10 x 10 mm, Pitch 0.8 mm; Supplier 1: Digi-Key; Supplier Part Number 1: PIC16LC64A-04I/PQ-ND; Supplier 2: Mouser; Supplier Part Number 2: 579-16LC64A-04I/PQ; Packing: TRAY; Mounting Technology: Surface Mount; ComponentLink1Description: Datasheet; ComponentLink1URL: http://ww1.microchip.com/downloads/en/DeviceDoc/30234E.pdf; ComponentLink2Description: Package Specification; ComponentLink2URL: http://www.microchip.com/stellent/groups/techpub_sg/documents/packagingspec/en012702.pdf; ComponentLink3Description: URL Link1; ComponentLink3URL: Product URL:http://www.microchip.com/datasheet/PIC16C64A
footprint MCHP-MQFP-PQ44_N (MQFP, 44-Leads, Body 10x10mm, Pitch 0.8mm, IPC Medium Density)
footprint MCHP-MQFP-PQ44_L (MQFP, 44-Leads, Body 10x10mm, Pitch 0.8mm, IPC High Density)
footprint MCHP-MQFP-PQ44_M (MQFP, 44-Leads, Body 10x10mm, Pitch 0.8 mm, IPC Low Density)
pins: 1 RC7 (io) "PORTC is a bi-directional I/O port.", 2 RD4/PSP4 (io), 3 RD5/PSP5 (io), 4 RD6/PSP6 (io), 5 RD7/PSP7 (io), 6 VSS (power) "Ground reference for logic and I/O pins.", 7 VDD (power) "Positive supply for logic and I/O pins.", 8 RB0/INT (io), 9 RB1 (io) "PORTB is a bi-directional I/O port. PORTB can be software programmed for internal weak pull-up on all inputs.", 10 RB2 (io) "PORTB is a bi-directional I/O port. PORTB can be software programmed for internal weak pull-up on all inputs.", 11 RB3 (io) "PORTB is a bi-directional I/O port. PORTB can be software programmed for internal weak pull-up on all inputs.", 12 NC "These pins are not internally connected. These pins should be left unconnected.", 13 NC "These pins are not internally connected. These pins should be left unconnected.", 14 RB4 (io) "PORTB is a bi-directional I/O port. PORTB can be software programmed for internal weak pull-up on all inputs. Interrupt on change pin.", 15 RB5 (io) "PORTB is a bi-directional I/O port. PORTB can be software programmed for internal weak pull-up on all inputs. Interrupt on change pin.", 16 RB6 (io) "PORTB is a bi-directional I/O port. PORTB can be software programmed for internal weak pull-up on all inputs. Interrupt on change pin. Serial programming clock.", 17 RB7 (io) "PORTB is a bi-directional I/O port. PORTB can be software programmed for internal weak pull-up on all inputs. Interrupt on change pin. Serial programming data.", 18 ~{MCLR}/VPP (in), 19 RA0 (io) "PORTA is a bi-directional I/O port.", 20 RA1 (io) "PORTA is a bi-directional I/O port.", 21 RA2 (io) "PORTA is a bi-directional I/O port.", 22 RA3 (io) "PORTA is a bi-directional I/O port.", 23 RA4/T0CKI (io), 24 RA5/~{SS} (io), 25 RE0/~{RD} (io), 26 RE1/~{WR} (io), 27 RE2/~{CS} (io), 28 VDD (power) "Positive supply for logic and I/O pins.", 29 VSS (power) "Ground reference for logic and I/O pins.", 30 OSC1/CLKIN (in), 31 OSC2/CLKOUT (out), 32 RC0/T1OSO/T1CKI (io), 33 NC "These pins are not internally connected. These pins should be left unconnected.", 34 NC "These pins are not internally connected. These pins should be left unconnected.", 35 RC1/T1OSI (io), 36 RC2/CCP1 (io), 37 RC3/SCK/SCL (io), 38 RD0/PSP0 (io), 39 RD1/PSP1 (io), 40 RD2/PSP2 (io), 41 RD3/PSP3 (io), 42 RC4/SDI/SDA (io), 43 RC5/SDO (io), 44 RC6 (io) "PORTC is a bi-directional I/O port."

## PIC16LC65A-04/P
designator U?
8-Bit CMOS Microcontroller, 4 MHz, 33 I/O, 0 to 70 degC, 40-pin PDIP (P40), Tube; Manufacturer: Microchip; PartNumber: PIC16LC65A-04/P; Digital Communication: 0 -UART, 1 -A/E/USART, 0 -SPI, 0 -I2C, 0 -MSSP(SPI/I2C), 1 -SSP(SPI/I2C); I/O Pins: 33; Max. CPU Speed MHz: 4; Memory Type: OTP; Operation Voltage Range: 2.5V - 6V; Program Memory KBytes: 7; RAM: 192; Timers: 2 - 8-bit, 1 - 16-bit; DatasheetVersion: Rev. E; PackageVersion: C04-016B, 04/2013; PackageReference: PDIP-P40; PackageDescription: 40-Lead Plastic Dual In-Line Package, Body 51.75 x 13.53 mm, Pitch 2.54 mm; Supplier 1: Digi-Key; Supplier Part Number 1: PIC16LC65A-04/P-ND; Supplier 2: Mouser; Supplier Part Number 2: 579-PIC16LC65A-04/P; Packing: TUBE; Program Memory KWords: 4; Mounting Technology: Through Hole; ComponentLink1Description: Datasheet; ComponentLink1URL: http://ww1.microchip.com/downloads/en/DeviceDoc/30234E.pdf; ComponentLink2Description: Package Specification; ComponentLink2URL: http://www.microchip.com/stellent/groups/techpub_sg/documents/packagingspec/en012702.pdf; ComponentLink3Description: URL Link1; ComponentLink3URL: Product URL:http://www.microchip.com/datasheet/PIC16C65A
footprint MCHP-PDIP-P40 (PDIP, 40-Leads, Body 51.75x13.53mm, Pitch 2.54mm)
pins: 1 ~{MCLR}/VPP (in), 2 RA0 (io) "PORTA is a bi-directional I/O port.", 3 RA1 (io) "PORTA is a bi-directional I/O port.", 4 RA2 (io) "PORTA is a bi-directional I/O port.", 5 RA3 (io) "PORTA is a bi-directional I/O port.", 6 RA4/T0CKI (io), 7 RA5/~{SS} (io), 8 RE0/~{RD} (io), 9 RE1/~{WR} (io), 10 RE2/~{CS} (io), 11 VDD (power) "Positive supply for logic and I/O pins.", 12 VSS (power) "Ground reference for logic and I/O pins.", 13 OSC1/CLKIN (in), 14 OSC2/CLKOUT (out), 15 RC0/T1OSO/T1CKI (io), 16 RC1/T1OSI/CCP2 (io), 17 RC2/CCP1 (io), 18 RC3/SCK/SCL (io), 19 RD0/PSP0 (io), 20 RD1/PSP1 (io), 21 RD2/PSP2 (io), 22 RD3/PSP3 (io), 23 RC4/SDI/SDA (io), 24 RC5/SDO (io), 25 RC6/TX/CK (io), 26 RC7/RX/DT (io), 27 RD4/PSP4 (io), 28 RD5/PSP5 (io), 29 RD6/PSP6 (io), 30 RD7/PSP7 (io), 31 VSS (power) "Ground reference for logic and I/O pins.", 32 VDD (power) "Positive supply for logic and I/O pins.", 33 RB0/INT (io), 34 RB1 (io) "PORTB is a bi-directional I/O port. PORTB can be software programmed for internal weak pull-up on all inputs.", 35 RB2 (io) "PORTB is a bi-directional I/O port. PORTB can be software programmed for internal weak pull-up on all inputs.", 36 RB3 (io) "PORTB is a bi-directional I/O port. PORTB can be software programmed for internal weak pull-up on all inputs.", 37 RB4 (io) "PORTB is a bi-directional I/O port. PORTB can be software programmed for internal weak pull-up on all inputs. Interrupt on change pin.", 38 RB5 (io) "PORTB is a bi-directional I/O port. PORTB can be software programmed for internal weak pull-up on all inputs. Interrupt on change pin.", 39 RB6 (io) "PORTB is a bi-directional I/O port. PORTB can be software programmed for internal weak pull-up on all inputs. Interrupt on change pin. Serial programming clock.", 40 RB7 (io) "PORTB is a bi-directional I/O port. PORTB can be software programmed for internal weak pull-up on all inputs. Interrupt on change pin. Serial programming data."

## PIC16LC65A-04/PQ
designator U?
8-Bit CMOS Microcontroller, 4 MHz, 33 I/O, 0 to 70 degC, 44-pin MQFP (PQ44), Tray; Manufacturer: Microchip; PartNumber: PIC16LC65A-04/PQ; Digital Communication: 0 -UART, 1 -A/E/USART, 0 -SPI, 0 -I2C, 0 -MSSP(SPI/I2C), 1 -SSP(SPI/I2C); I/O Pins: 33; Max. CPU Speed MHz: 4; Memory Type: OTP; Operation Voltage Range: 2.5V - 6V; Program Memory KBytes: 7; RAM: 192; Timers: 2 - 8-bit, 1 - 16-bit; DatasheetVersion: Rev. E; PackageVersion: C04-071B, 04/2013; PackageReference: MQFP-PQ44; PackageDescription: 44-Lead Plastic Metric Quad Flatpack Package, Body 10 x 10 mm, Pitch 0.8 mm; Supplier 1: Digi-Key; Supplier Part Number 1: PIC16LC65A-04/PQ-ND; Supplier 2: Mouser; Supplier Part Number 2: 579-PIC16LC65A-04/PQ; Packing: TRAY; Program Memory KWords: 4; Mounting Technology: Surface Mount; ComponentLink1Description: Datasheet; ComponentLink1URL: http://ww1.microchip.com/downloads/en/DeviceDoc/30234E.pdf; ComponentLink2Description: Package Specification; ComponentLink2URL: http://www.microchip.com/stellent/groups/techpub_sg/documents/packagingspec/en012702.pdf; ComponentLink3Description: URL Link1; ComponentLink3URL: Product URL:http://www.microchip.com/datasheet/PIC16C65A
footprint MCHP-MQFP-PQ44_N (MQFP, 44-Leads, Body 10x10mm, Pitch 0.8mm, IPC Medium Density)
footprint MCHP-MQFP-PQ44_L (MQFP, 44-Leads, Body 10x10mm, Pitch 0.8mm, IPC High Density)
footprint MCHP-MQFP-PQ44_M (MQFP, 44-Leads, Body 10x10mm, Pitch 0.8 mm, IPC Low Density)
pins: 1 RC7/RX/DT (io), 2 RD4/PSP4 (io), 3 RD5/PSP5 (io), 4 RD6/PSP6 (io), 5 RD7/PSP7 (io), 6 VSS (power) "Ground reference for logic and I/O pins.", 7 VDD (power) "Positive supply for logic and I/O pins.", 8 RB0/INT (io), 9 RB1 (io) "PORTB is a bi-directional I/O port. PORTB can be software programmed for internal weak pull-up on all inputs.", 10 RB2 (io) "PORTB is a bi-directional I/O port. PORTB can be software programmed for internal weak pull-up on all inputs.", 11 RB3 (io) "PORTB is a bi-directional I/O port. PORTB can be software programmed for internal weak pull-up on all inputs.", 12 NC "These pins are not internally connected. These pins should be left unconnected.", 13 NC "These pins are not internally connected. These pins should be left unconnected.", 14 RB4 (io) "PORTB is a bi-directional I/O port. PORTB can be software programmed for internal weak pull-up on all inputs. Interrupt on change pin.", 15 RB5 (io) "PORTB is a bi-directional I/O port. PORTB can be software programmed for internal weak pull-up on all inputs. Interrupt on change pin.", 16 RB6 (io) "PORTB is a bi-directional I/O port. PORTB can be software programmed for internal weak pull-up on all inputs. Interrupt on change pin. Serial programming clock.", 17 RB7 (io) "PORTB is a bi-directional I/O port. PORTB can be software programmed for internal weak pull-up on all inputs. Interrupt on change pin. Serial programming data.", 18 ~{MCLR}/VPP (in), 19 RA0 (io) "PORTA is a bi-directional I/O port.", 20 RA1 (io) "PORTA is a bi-directional I/O port.", 21 RA2 (io) "PORTA is a bi-directional I/O port.", 22 RA3 (io) "PORTA is a bi-directional I/O port.", 23 RA4/T0CKI (io), 24 RA5/~{SS} (io), 25 RE0/~{RD} (io), 26 RE1/~{WR} (io), 27 RE2/~{CS} (io), 28 VDD (power) "Positive supply for logic and I/O pins.", 29 VSS (power) "Ground reference for logic and I/O pins.", 30 OSC1/CLKIN (in), 31 OSC2/CLKOUT (out), 32 RC0/T1OSO/T1CKI (io), 33 NC "These pins are not internally connected. These pins should be left unconnected.", 34 NC "These pins are not internally connected. These pins should be left unconnected.", 35 RC1/T1OSI/CCP2 (io), 36 RC2/CCP1 (io), 37 RC3/SCK/SCL (io), 38 RD0/PSP0 (io), 39 RD1/PSP1 (io), 40 RD2/PSP2 (io), 41 RD3/PSP3 (io), 42 RC4/SDI/SDA (io), 43 RC5/SDO (io), 44 RC6/TX/CK (io)